# Altium footprint library #6_mounting_hole_0.PcbLib: 1 footprints
Each footprint in its own frame and in the unit in brackets; x right, y up, seen from the top. Pads: shape width x height; smd on the part's side, far side on the other; paste and mask are expansions set on the pad; w line width, h text height; cw(c..) or ccw(c..) is an arc to the next point about the centre after c.
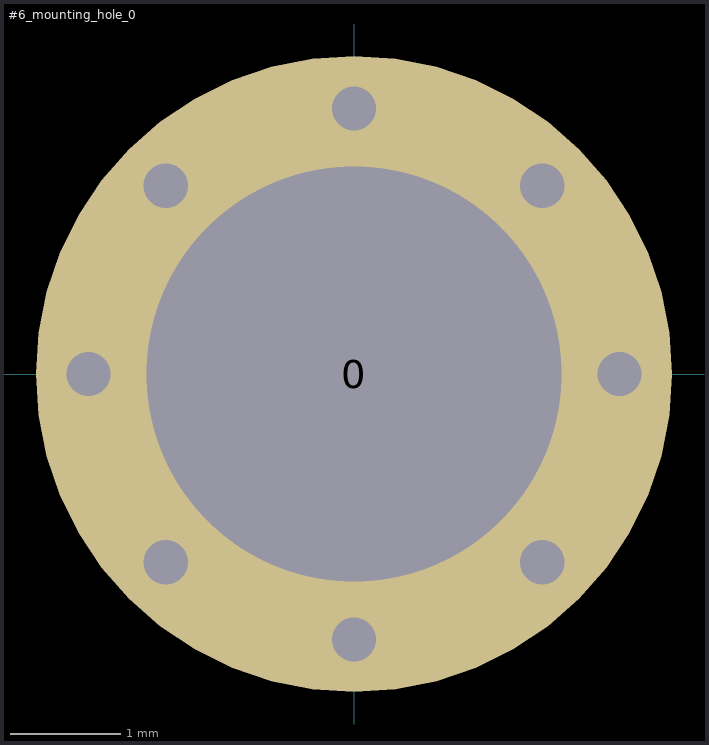
[diagram p0: the footprint, top view; thin cyan lines are the x and y axes]

## #6_mounting_hole_0 [mm]
pads (1):
  round 5.75 hole 3.75: 0(0,0)
via 0,2.4 diameter 0.8 hole 0.4
via 0,-2.4 diameter 0.8 hole 0.4
via 2.4,0 diameter 0.8 hole 0.4
via -2.4,0 diameter 0.8 hole 0.4
via 1.7,1.7 diameter 0.8 hole 0.4
via 1.7,-1.7 diameter 0.8 hole 0.4
via -1.7,-1.7 diameter 0.8 hole 0.4
via -1.7,1.7 diameter 0.8 hole 0.4